# Altium schematic symbol library BAV170MYL.SchLib: 1 symbol
Pins are listed as number, name and electrical type; pins without a type are passive.

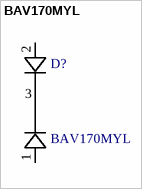
[diagram p0: symbol BAV170MYL]

## BAV170MYL
designator D?  value BAV170MYL  (hidden comment: *)
Diodes - General Purpose, Power, Switching BAV170M/SOT883/XQFN3; Fabricant: Nexperia; Référence: BAV170MYL
footprint DFN1006-3 (SOT883)
pins: 1 A1, 2 K2, 3 C1/A2